# Altium footprint library BSR NODE_V2.0 LIB.PcbLib: 41 footprints (part 1 of 3)
Each footprint in its own frame and in the unit in brackets; x right, y up, seen from the top. Pads: shape width x height; smd on the part's side, far side on the other; paste and mask are expansions set on the pad; w line width, h text height; cw(c..) or ccw(c..) is an arc to the next point about the centre after c.
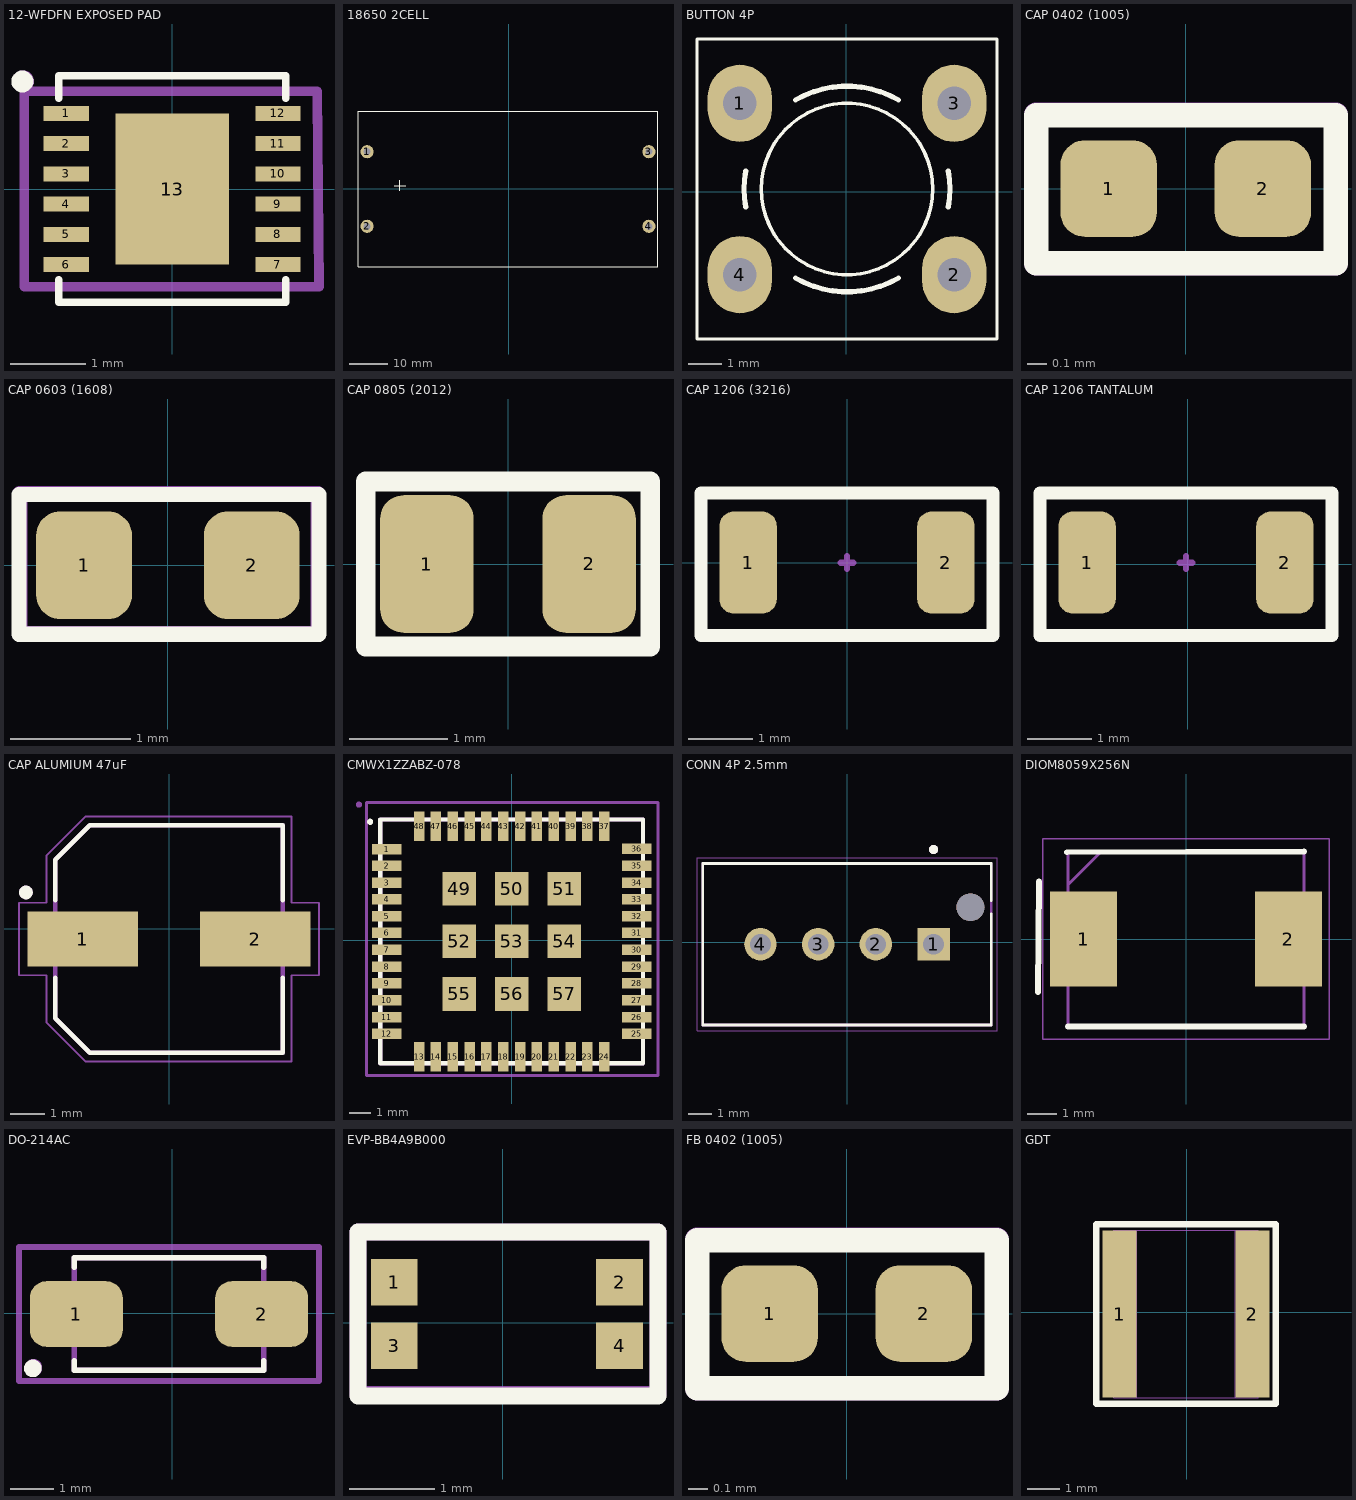
[diagram p0: the footprints below, top view; thin cyan lines are the x and y axes]

## 12-WFDFN EXPOSED PAD [mm]
pads (13):
  rect 0.6x0.2 smd: 1(-1.4,1) 2(-1.4,0.6) 3(-1.4,0.2) 4(-1.4,-0.2) 5(-1.4,-0.6) 6(-1.4,-1) 7(1.4,-1) 8(1.4,-0.6) 9(1.4,-0.2) 10(1.4,0.2) 11(1.4,0.6) 12(1.4,1)
  rect 1.5x2 smd: 13(0,0)
Top Overlay:
  circle w0.2: c-1.981,1.422 r0.045
  lines w0.1: -1.5,-1.2 -1.5,-1.5 1.5,-1.5 1.5,-1.2 ; -1.5,1.2 -1.5,1.5 1.5,1.5 1.5,1.2
Mechanical 15:
  circle w0.2: c-1.974,1.425 r0.045
  lines w0.127: -1.956,-1.295 -1.956,1.295 1.921,1.295 1.943,-1.295 -1.956,-1.295
  text "'.Designator'" at -0.066,-0.276 h0.38
3D body: height 0.75, standoff 0, extent -1.5,-1.5 1.5,1.5

## 18650 2CELL [mm]
pads (4):
  round 3.4 hole 1.8: 1(-36.653,9.523) 2(-36.653,-9.777) 3(36.247,9.523) 4(36.247,-9.777)
Top Overlay:
  lines w0.2: -29.603,0.673 -26.603,0.673 ; -28.203,-0.627 -28.203,2.073 ; -39.003,-20.227 38.597,-20.227 38.597,19.973 -38.703,19.973 -39.003,19.973 -39.003,-20.227
3D body "User Library-battery-18650-2bodys.STEP": height 21.55, standoff -3.19, extent -39.053,-20.227 38.647,19.973

## BUTTON 4P [mil]
pads (4):
  oval 75x90 hole 39.37: 1(-124,103) 2(126,-97) 3(126,103) 4(-124,-97)
Top Overlay:
  circle w4: c1,3 r100
  lines w4: -174,-172 -174,178 176,178 176,-172 -174,-172
  lines w6: -117.18,-17.84 cw(c1,3) -117.18,23.84 ; -59,-100.92 ccw(c1,3) 61,-100.92 ; -59,106.92 cw(c1,3) 61,106.92 ; 119.18,-17.84 ccw(c1,3) 119.18,23.84
3D body "User Library-tactile BUTTON.STEP": height 78.43, standoff -210.94, extent -154,-119.05 157.02,125.05

## CAP 0402 (1005) [mm]
pads (2):
  rrect50% 0.5x0.5 smd mask+0.05: 1(-0.4,0) 2(0.4,0)
Top Overlay:
  lines w0.127: -0.775,-0.386 -0.775,0.38 0.778,0.38 0.778,-0.386 -0.775,-0.386
Mechanical 15:
  lines w0.127: -0.777,-0.387 0.779,-0.387 0.779,0.383 -0.777,0.383 -0.777,-0.387
  text "'.Designator'" at -0.635,-0.178 h0.38
3D body "CAP 0402.step": height 0.51, standoff 0.01, extent -0.5,-0.25 0.5,0.25

## CAP 0603 (1608) [mm]
pads (2):
  rrect50% 0.8x0.9 smd mask+0.05: 1(-0.7,0) 2(0.7,0)
Top Overlay:
  lines w0.127: -1.244,-0.576 1.262,-0.576 1.262,0.591 -1.244,0.591 -1.244,-0.576
Mechanical 15:
  lines w0.127: -1.238,-0.571 -1.238,0.597 1.253,0.597 1.253,-0.571 -1.238,-0.571
  text "'.Designator'" at -0.838,-0.152 h0.38
3D body "CAP 0603.step": height 0.81, standoff 0.01, extent -0.8,-0.4 0.8,0.4

## CAP 0805 (2012) [mm]
pads (2):
  rrect50% 0.95x1.4 smd mask+0.05: 1(-0.825,0) 2(0.825,0)
Top Overlay:
  lines w0.2: -1.448,-0.838 1.448,-0.838 1.448,0.838 -1.448,0.838 -1.448,-0.838
Mechanical 15:
  lines w0.127: -1.448,-0.838 -1.448,0.838 1.448,0.838 1.448,-0.838 -1.448,-0.838
  text "'.Designator'" at -1.12,-0.14 h0.38
3D body "CAP 0805.step": height 0.61, standoff 0.01, extent -1,-0.625 1,0.625

## CAP 1206 (3216) [mm]
pads (2):
  rrect50% 0.9x1.6 smd: 1(-1.55,0) 2(1.55,0)
Top Overlay:
  lines w0.2: -2.286,-1.143 2.286,-1.143 2.286,1.092 -2.286,1.092 -2.286,-1.143
Mechanical 15:
  lines w0.1: -0.1,0 0.1,0 ; 0,-0.1 0,0.1 ; -2.3,-1.1 -2.3,1.1 2.3,1.1 2.3,-1.1 -2.3,-1.1
  text ".Designator" at -1.8,-0.4 h1
3D body "CAPC3216X95N EIA 1206.step": height 0.95, standoff 0, extent -1.6,-0.8 1.6,0.8

## CAP 1206 TANTALUM [mm]
pads (2):
  rrect50% 0.9x1.6 smd: 1(-1.575,0.025) 2(1.525,0.025)
Top Overlay:
  lines w0.2: -2.311,-1.118 2.261,-1.118 2.261,1.118 -2.311,1.118 -2.311,-1.118
Mechanical 15:
  lines w0.1: -0.125,0.025 0.075,0.025 ; -0.025,-0.075 -0.025,0.125 ; -2.325,-1.075 -2.325,1.125 2.275,1.125 2.275,-1.075 -2.325,-1.075
  text ".Designator" at -1.825,-0.375 h1
3D body "User Library-CAP_TAN_C3216_1206.STEP": height 1.8, standoff 0, extent -1.725,-0.889 1.675,0.911

## CAP ALUMIUM 47uF [mm]
pads (2):
  rect 3.2x1.6 smd: 1(-2.514,-0.302) 2(2.486,-0.302)
Top Overlay:
  circle w0.2: c-4.164,1.048 r0.1
  lines w0.127: -3.314,-1.422 -3.314,-2.602 -2.314,-3.602 3.286,-3.602 3.286,-1.422 ; -3.314,0.818 -3.314,1.998 -2.314,2.998 3.286,2.998 3.286,0.818
Mechanical 13:
  circle w0.2: c-4.164,1.048 r0.1
  lines w0.127: -3.314,-2.602 -2.314,-3.602 3.286,-3.602 3.286,2.998 -2.314,2.998 -3.314,1.998 -3.314,-2.602
Mechanical 15:
  lines w0.05: -4.364,-1.352 -4.364,0.748 -3.564,0.748 -3.564,2.123 -2.439,3.248 3.536,3.248 3.536,0.748 4.336,0.748 4.336,-1.352 3.536,-1.352 3.536,-3.852 -2.439,-3.852 -3.564,-2.727 -3.564,-1.352 -4.364,-1.352
3D body "step_temp.STEP": height 7.7, standoff 0, extent -3.65,-3.581 3.65,3.019

## CMWX1ZZABZ-078 [mm]
pads (57):
  rect 1.4x0.5 smd: 1(-5.944,4.343) 2(-5.944,3.549) 3(-5.944,2.749) 4(-5.944,1.949) 5(-5.944,1.149) 6(-5.944,0.349) 7(-5.944,-0.451) 8(-5.944,-1.251) 9(-5.944,-2.051) 10(-5.944,-2.851) 11(-5.944,-3.651) 12(-5.944,-4.451) 25(5.944,-4.451) 26(5.944,-3.651) 27(5.944,-2.851) 28(5.944,-2.051) 29(5.944,-1.251) 30(5.944,-0.451) 31(5.944,0.349) 32(5.944,1.149) 33(5.944,1.949) 34(5.944,2.749) 35(5.944,3.549) 36(5.944,4.349)
  rect 0.5x1.4 smd: 13(-4.4,-5.537) 14(-3.6,-5.537) 15(-2.8,-5.537) 16(-2,-5.537) 17(-1.2,-5.537) 18(-0.4,-5.537) 19(0.4,-5.537) 20(1.2,-5.537) 21(2,-5.537) 22(2.8,-5.537) 23(3.6,-5.537) 24(4.4,-5.537) 37(4.4,5.435) 38(3.6,5.435) 39(2.8,5.435) 40(2,5.435) 41(1.2,5.435) 42(0.4,5.435) 43(-0.4,5.435) 44(-1.2,5.435) 45(-2,5.435) 46(-2.8,5.435) 47(-3.6,5.435) 48(-4.394,5.436)
  rect 1.6x1.6 smd: 49(-2.5,2.449) 50(0,2.449) 51(2.5,2.449) 52(-2.5,-0.051) 53(0,-0.051) 54(2.5,-0.051) 55(-2.5,-2.551) 56(0,-2.551) 57(2.5,-2.551)
Top Overlay:
  circle w0.2: c-6.731,5.639 r0.045
  lines w0.2: -6.25,-5.851 -6.25,5.749 6.25,5.749 6.25,-5.851 -6.25,-5.851
Mechanical 13:
  lines w0.2: -6.25,-5.851 6.25,-5.851 6.25,5.749 -6.25,5.749 -6.25,-5.851
Mechanical 15:
  circle w0.2: c-7.264,6.452 r0.045
  lines w0.127: -6.909,-6.426 -6.909,6.553 6.96,6.553 6.96,-6.426 -6.909,-6.426
  text "'.Designator'" at -2.173,-0.696 h0.38
3D body "User Library-CMWX1ZZABZ.STEP": height 1.76, standoff 0, extent -6.275,-5.851 6.225,5.749

## CONN 4P 2.5mm [mm]
pads (5):
  rect 1.408x1.408 hole 0.9: 1(3.75,-0.076)
  round 1.408 hole 0.9: 2(1.25,-0.076) 3(-1.25,-0.076) 4(-3.75,-0.076)
  round 1.2 hole 1.2 unplated: ""(5.35,1.524)
Top Overlay:
  circle w0.2: c3.75,4.024 r0.1
  lines w0.127: 6.25,1.224 6.25,-3.576 -6.25,-3.576 -6.25,3.424 6.25,3.424 6.25,1.824
Mechanical 13:
  circle w0.2: c3.75,4.024 r0.1
  lines w0.127: -6.25,-3.576 -6.25,3.424 6.25,3.424 6.25,-3.576 -6.25,-3.576
Mechanical 15:
  lines w0.05: -6.5,-3.826 -6.5,3.674 6.5,3.674 6.5,-3.826 -6.5,-3.826
3D body "1744418-4.stp": height 8.51, standoff -3.69, extent -6.301,-3.404 6.199,3.126

## DIOM8059X256N [mm]
pads (2):
  rect 2.25x3.2 smd: 1(-3.45,0) 2(3.45,0)
Top Overlay:
  lines w0.2: -4.978,-1.778 -4.953,1.93 ; -4.013,2.921 3.975,2.95 ; -3.975,-2.95 3.975,-2.95
Mechanical 13:
  lines w0.1: -3.975,1.825 -2.85,2.95 ; -3.975,-2.95 3.975,-2.95 3.975,2.95 -3.975,2.95 -3.975,-2.95
Mechanical 15:
  lines w0.05: -4.825,-3.375 4.825,-3.375 4.825,3.375 -4.825,3.375 -4.825,-3.375
3D body "SS34.stp": height 2.56, standoff 0, extent -3.975,-2.95 3.975,2.95

## DO-214AC [mm]
pads (2):
  rrect50% 2.12x1.5 smd: 1(-2.19,-0.014) 2(2.04,-0.014)
Top Overlay:
  circle w0.2: c-3.185,-1.256 r0.1
  lines w0.127: -2.24,-1.084 -2.24,-1.294 2.09,-1.294 2.09,-1.084 ; -2.24,1.056 -2.24,1.266 2.09,1.266 2.09,1.056
Mechanical 13:
  circle w0.2: c-3.17,-1.241 r0.1
  lines w0.127: -2.24,-1.294 -2.24,1.266 2.09,1.266 2.09,-1.294 -2.24,-1.294
Mechanical 15:
  lines w0.127: -3.5,-1.544 -3.5,1.516 3.35,1.516 3.35,-1.544 -3.5,-1.544
  text "'.Designator'" at -0.433,-0.11 h0.38
3D body "step_temp.STEP": height 2.5, standoff 0, extent -2.645,-1.294 2.495,1.266

## EVP-BB4A9B000 [mm]
pads (4):
  rect 0.55x0.55 smd: 1(-1.274,0.477) 2(1.376,0.477) 3(-1.274,-0.273) 4(1.376,-0.273)
Top Overlay:
  lines w0.2: -1.702,-0.864 -1.702,1.067 1.829,1.067 1.829,-0.864 -1.702,-0.864
  text "." at -2.007,0.813 h0.64
Mechanical 15:
  lines w0.2: -1.702,-0.848 -1.702,1.067 1.829,1.067 1.829,-0.848 -1.702,-0.848
  text "'.Designator'" at -0.686,-0.152 h0.76
  text "." at -2.007,0.838 h0.64
3D body "EVPBB4A9B000.STEP": height 0.53, standoff -0.03, extent -1.463,-0.78 1.537,1.02

## FB 0402 (1005) [mm]
pads (2):
  rrect50% 0.5x0.5 smd mask+0.05: 1(-0.4,0) 2(0.4,0)
Top Overlay:
  lines w0.127: -0.775,-0.386 0.778,-0.386 0.778,0.38 -0.775,0.38 -0.775,-0.386
Mechanical 15:
  lines w0.127: -0.777,-0.387 -0.777,0.383 0.779,0.383 0.779,-0.387 -0.777,-0.387
  text "'.Designator'" at -0.635,-0.178 h0.38
3D body "BLM15HG102SN1D.STEP": height 0.55, standoff 0, extent -0.5,-0.25 0.5,0.25

## GDT [mil]
pads (2):
  rect 42x205 smd: 1(-82.5,-2) 2(80.5,-2)
Top Overlay:
  lines w7.87: -111.24,-112.24 109.24,-112.24 109.24,108.24 -111.24,108.24 -111.24,-112.24
Mechanical 13:
  lines w1: -89.5,-104.5 -89.5,100.5 ; -89.5,-104.5 -61.5,-104.5 -61.5,100.5 -89.5,100.5 ; -89.5,-104.5 87.5,-104.5 ; -89.5,-104.5 -89.5,100.5 ; -89.5,100.5 87.5,100.5 ; 87.5,-104.5 59.5,-104.5 59.5,100.5 87.5,100.5 ; 87.5,-104.5 87.5,100.5 ; 87.5,-104.5 87.5,100.5
3D body "GDT_SH_LTF.step": height 205, standoff 0, extent -89.5,-104.52 87.5,100.52